# Altium footprint library STM32F401_Nucleo.PcbLib: 31 footprints (part 2 of 2)
Each footprint in its own frame and in the unit in brackets; x right, y up, seen from the top. Pads: shape width x height; smd on the part's side, far side on the other; paste and mask are expansions set on the pad; w line width, h text height; cw(c..) or ccw(c..) is an arc to the next point about the centre after c.
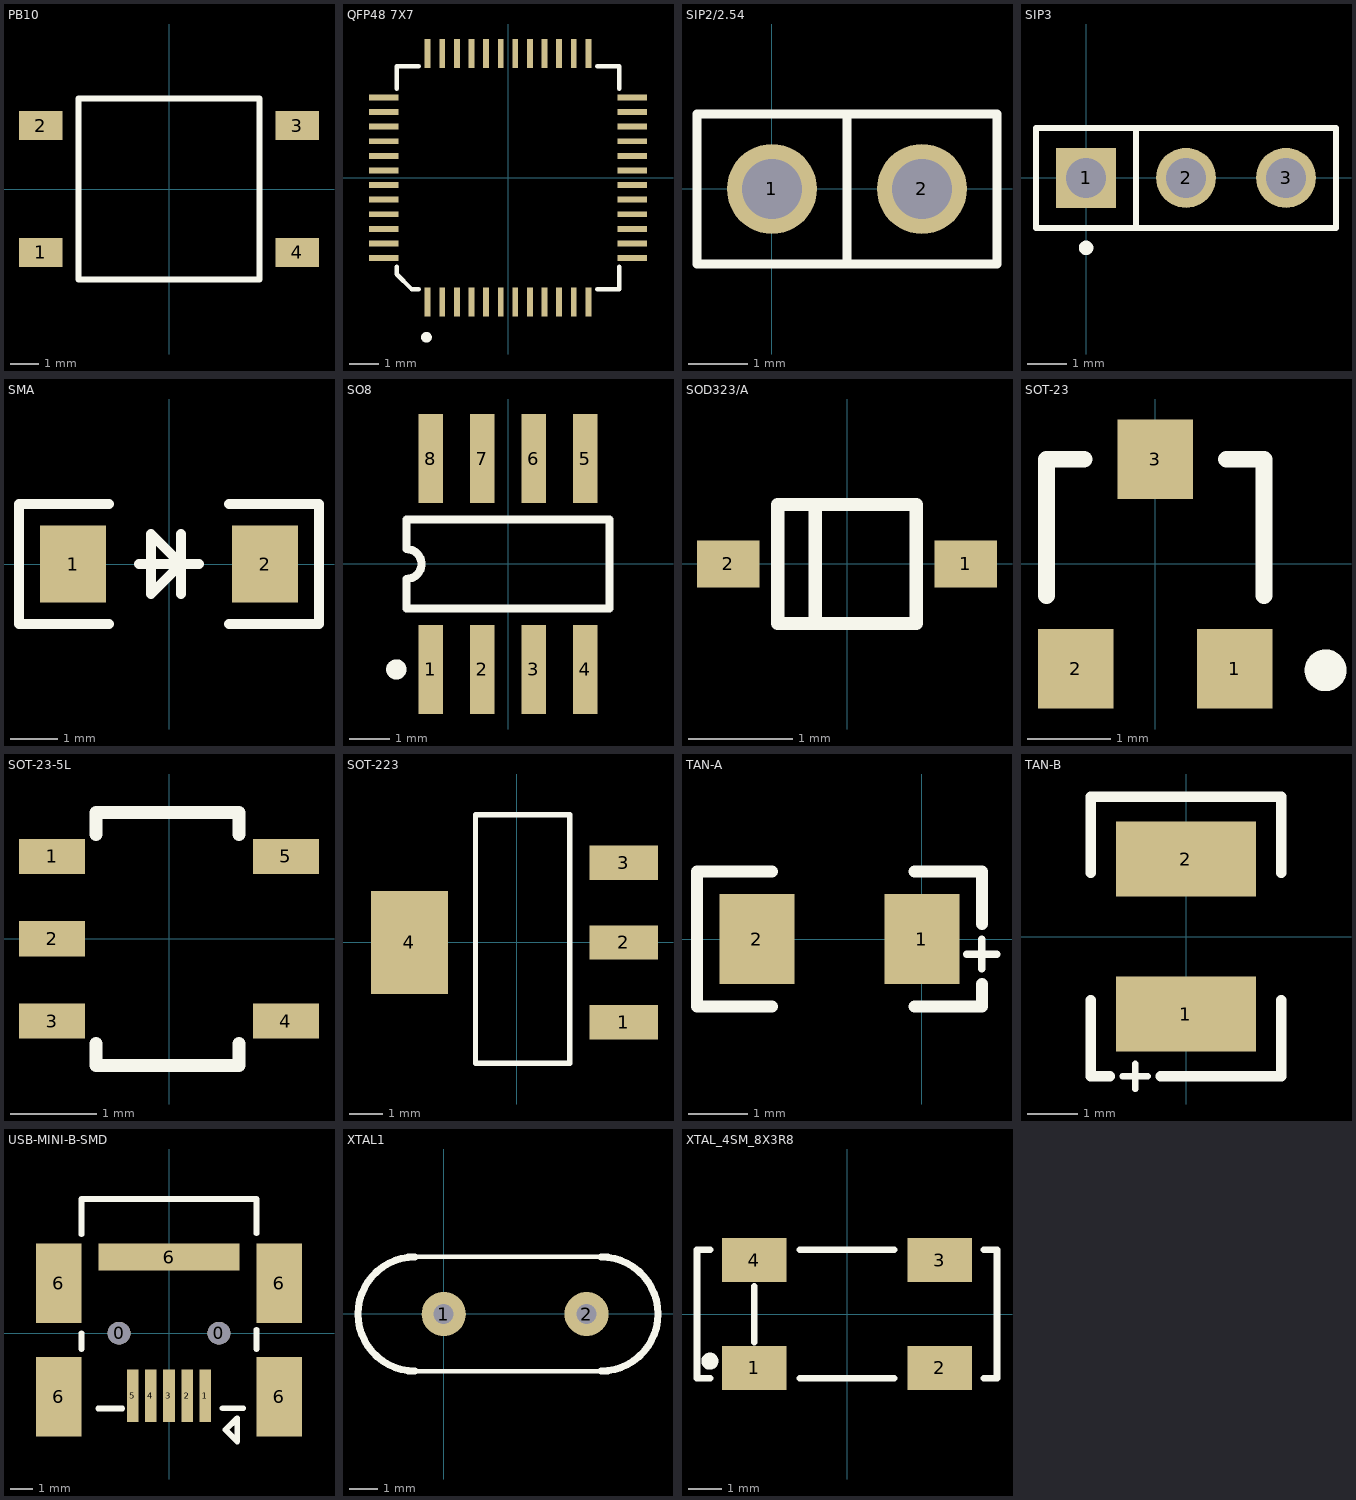
[diagram p1: the footprints below, top view; thin cyan lines are the x and y axes]

## PB10 [mil]
pads (4):
  rect 60x40 smd: 1(-177.17,-87.5) 2(-177.17,87.5) 3(177.17,87.5) 4(177.17,-87.5)
Top Overlay:
  lines w8: -125,-125 -125,125 125,125 125,-125 -125,-125

## QFP48 7X7 [mm]
pads (48):
  rect 0.2x1 smd: 1(-2.75,-4.25) 2(-2.25,-4.25) 3(-1.75,-4.25) 4(-1.25,-4.25) 5(-0.75,-4.25) 6(-0.25,-4.25) 7(0.25,-4.25) 8(0.75,-4.25) 9(1.25,-4.25) 10(1.75,-4.25) 11(2.25,-4.25) 12(2.75,-4.25) 25(2.75,4.25) 26(2.25,4.25) 27(1.75,4.25) 28(1.25,4.25) 29(0.75,4.25) 30(0.25,4.25) 31(-0.25,4.25) 32(-0.75,4.25) 33(-1.25,4.25) 34(-1.75,4.25) 35(-2.25,4.25) 36(-2.75,4.25)
  rect 1x0.2 smd: 13(4.25,-2.75) 14(4.25,-2.25) 15(4.25,-1.75) 16(4.25,-1.25) 17(4.25,-0.75) 18(4.25,-0.25) 19(4.25,0.25) 20(4.25,0.75) 21(4.25,1.25) 22(4.25,1.75) 23(4.25,2.25) 24(4.25,2.75) 37(-4.25,2.75) 38(-4.25,2.25) 39(-4.25,1.75) 40(-4.25,1.25) 41(-4.25,0.75) 42(-4.25,0.25) 43(-4.25,-0.25) 44(-4.25,-0.75) 45(-4.25,-1.25) 46(-4.25,-1.75) 47(-4.25,-2.25) 48(-4.25,-2.75)
Top Overlay:
  circle w0.25: c-2.792,-5.461 r0.059
  lines w0.152: -3.81,-3.048 -3.81,-3.302 -3.302,-3.81 -3.048,-3.81 ; -3.81,3.048 -3.81,3.81 -3.048,3.81 ; 3.048,-3.81 3.81,-3.81 3.81,-3.048 ; 3.048,3.81 3.81,3.81 3.81,3.048

## SIP2/2.54 [mil]
pads (2):
  round 60 hole 40: 1(0,0) 2(100,0)
Top Overlay:
  lines w6: 50.04,-50.04 50.04,49.96 ; -49.96,-50.04 -49.96,49.96 150.04,49.96 150.04,-50.04 -49.96,-50.04

## SIP3 [mil]
pads (3):
  rect 60x60 hole 40: 1(0,0)
  round 60 hole 40: 2(100,0) 3(200,0)
Top Overlay:
  circle w9.84: c0.08,-70 r2.31
  lines w6: 50,-50 50,50 ; -50,-50 -50,50 250,50 250,-50 -50,-50

## SMA [mm]
pads (2):
  rect 1.4x1.64 smd: 1(-2.032,0) 2(2.032,0)
Top Overlay:
  lines w0.203: -1.27,-1.27 -3.175,-1.27 -3.175,1.27 -1.27,1.27 ; -0.635,0 0.635,0 ; 0.254,-0.635 0.254,0.635 ; 1.27,-1.27 3.175,-1.27 3.175,1.27 1.27,1.27 ; -0.381,-0.635 -0.381,0.635 0.254,0 -0.381,-0.635

## SO8 [mm]
pads (8):
  rect 0.6x2.2 smd: 1(-1.905,-2.6) 2(-0.635,-2.6) 3(0.635,-2.6) 4(1.905,-2.6) 5(1.905,2.6) 6(0.635,2.6) 7(-0.635,2.6) 8(-1.905,2.6)
Top Overlay:
  circle w0.25: c-2.755,-2.6 r0.125
  lines w0.2: -2.5,-1.1 -2.5,-0.367 ccw(c-2.5,0) -2.5,0.367 -2.5,1.1 2.5,1.1 2.5,-1.1 -2.5,-1.1

## SOD323/A [mm]
pads (2):
  rect 0.6x0.45 smd: 1(1.143,0) 2(-1.143,0)
Top Overlay:
  lines w0.127: -0.305,-0.559 -0.305,0.559 ; -0.666,-0.573 0.666,-0.573 0.666,0.573 -0.666,0.573 -0.666,-0.573

## SOT-23 [mm]
pads (3):
  rect 0.9x0.95 smd: 1(0.95,-1.25) 2(-0.95,-1.25) 3(0,1.25)
Top Overlay:
  circle w0.25: c2.034,-1.27 r0.125
  lines w0.2: -1.3,-0.375 -1.3,1.25 -0.85,1.25 ; 0.85,1.25 1.3,1.25 1.3,-0.375

## SOT-23-5L [mil]
pads (5):
  rect 30x16 smd: 1(-53.15,37.4) 2(-53.15,0) 3(-53.15,-37.4) 4(53.15,-37.4) 5(53.15,37.4)
Top Overlay:
  lines w6: -33.15,-47.6 -33.15,-57.6 31.85,-57.6 31.85,-47.6 ; -33.15,47.4 -33.15,57.4 31.85,57.4 31.85,47.4

## SOT-223 [mil]
pads (4):
  rect 80x40 smd: 1(125,-93) 2(125,0) 3(125,93)
  rect 90x120 smd: 4(-125,0)
Top Overlay:
  lines w6: -48,-141 -48,149 62,149 62,-141 -48,-141

## TAN-A [mil]
pads (2):
  rect 50x60 smd: 1(0,0) 2(-110,0)
Top Overlay:
  lines w5: 30,-10 50,-10 ; 40,-20 40,0
  lines w8: -100,-45 -150,-45 -150,45 -100,45 ; -5,-45 40,-45 40,-30 ; -5,45 40,45 40,10

## TAN-B [mm]
pads (2):
  rect 2.8x1.5 smd: 1(0,-1.55) 2(0,1.55)
Top Overlay:
  lines w0.127: -1.27,-2.794 -0.762,-2.794 ; -1.016,-3.048 -1.016,-2.54
  lines w0.203: -1.905,-1.27 -1.905,-2.794 -1.524,-2.794 ; -1.905,1.27 -1.905,2.794 1.905,2.794 1.905,1.27 ; -0.508,-2.794 1.905,-2.794 1.905,-1.27
Mechanical 13:
  lines w0.1: -1.35,-1.7 1.35,-1.7 ; -1.35,1.7 1.35,1.7

## USB-MINI-B-SMD [mm]
pads (12):
  round 1 hole 1 unplated: 0(-2.2,0) 0(2.194,0)
  rect 0.508x2.3 smd: 1(1.597,-2.75) 2(0.797,-2.75) 3(-0.003,-2.75) 4(-0.803,-2.75) 5(-1.603,-2.75)
  rect 2x3.5 smd: 6(-4.853,-2.8) 6(-4.853,2.2) 6(4.847,-2.8) 6(4.847,2.2)
  rect 6.2x1.2 smd: 6(0,3.35)
Top Overlay:
  lines w0.254: -3.853,-0.7 -3.853,0 ; -3.853,4.35 -3.853,5.9 3.847,5.9 3.847,4.4 ; -3.113,-3.308 -2.06,-3.308 ; 2.347,-3.302 3.267,-3.302 ; 3.847,-0.7 3.847,0.15 ; 2.489,-4.253 2.997,-3.745 2.997,-4.761 2.489,-4.253

## XTAL1 [mil]
pads (2):
  round 62 hole 28: 1(-0.36,-0.2) 2(199.64,-0.2)
Top Overlay:
  lines w6.3: -40.36,-80.2 219.64,-80.2 ; -40.36,79.8 219.64,79.8
  lines w10: -40.36,-80.2 cw(c-40.36,-0.2) -40.36,79.8 ; 219.64,-80.2 ccw(c219.64,-0.2) 219.64,79.8

## XTAL_4SM_8X3R8 [mm]
pads (4):
  rect 1.9x1.3 smd: 1(-2.75,-1.6) 2(2.75,-1.6) 3(2.75,1.6) 4(-2.75,1.6)
Top Overlay:
  circle w0.254: c-4.064,-1.397 r0.127
  lines w0.203: -4.064,-1.905 -4.445,-1.905 -4.445,1.905 -4.064,1.905 ; -2.75,-0.838 -2.75,0.813 ; -1.397,-1.905 1.397,-1.905 ; -1.397,1.905 1.397,1.905 ; 4.064,-1.905 4.445,-1.905 4.445,-1.651 4.445,1.651 4.445,1.905 4.064,1.905